# Altium schematic symbol library Module.SchLib: 68 symbols
Pins are listed as number, name and electrical type; pins without a type are passive.

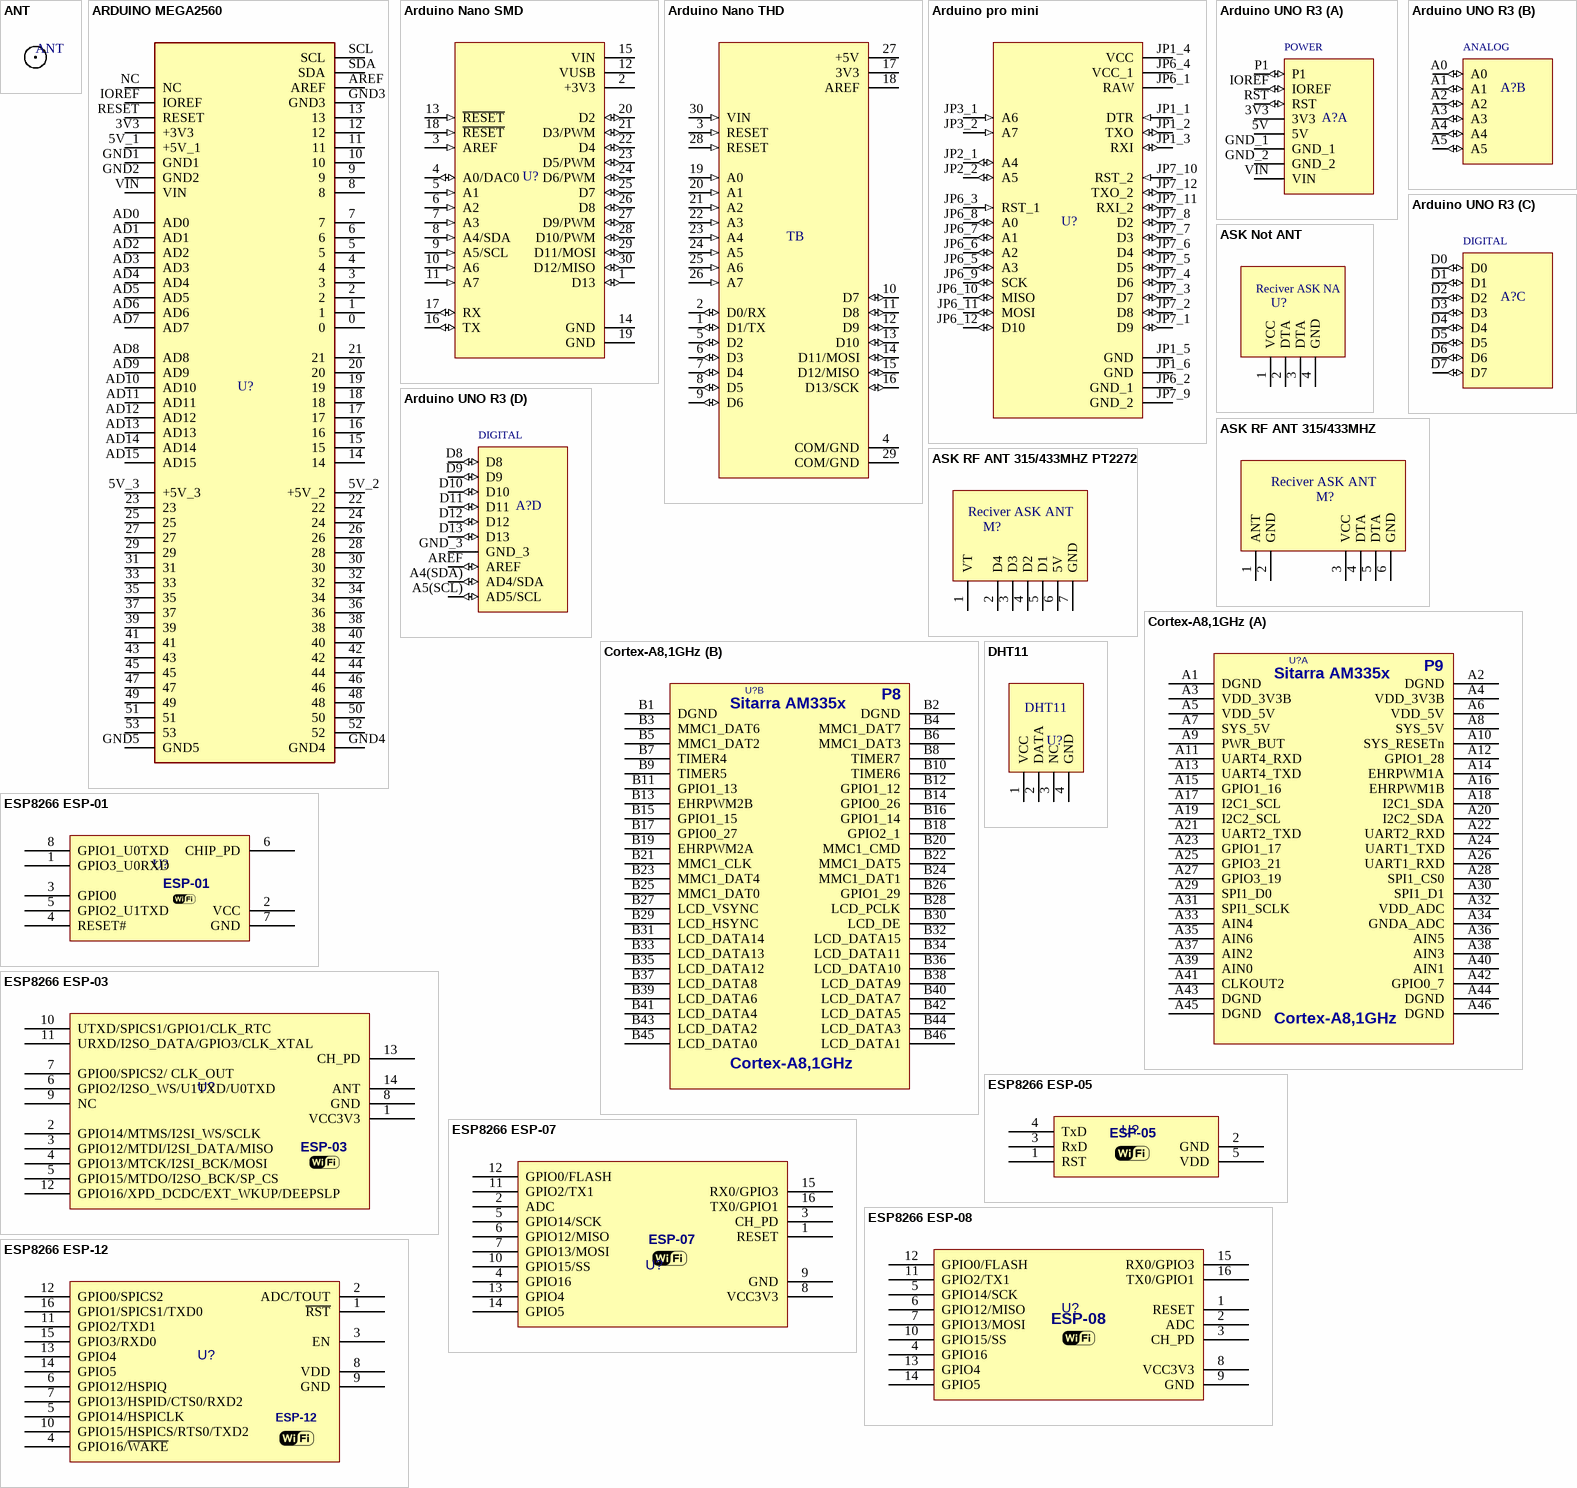
[diagram p0: symbols ANT to ESP8266 ESP-12]

## ANT
designator ANT
DatasheetVersion: 2022
footprint ANT GSM 1
footprint ANT GSM 2
footprint ANT GSM 3
footprint ANT GSM 4
footprint ANT GSM 5

## ARDUINO MEGA2560
designator U?
Dev.kit: Arduino; SPI, TWI, UART; ICSP, USB B, pin strips, supply; DatasheetVersion: 2022
footprint ARDUINO MEGA2560
pins: 0, 1, 2, 3, 3V3 +3V3, 4, 5, 5V_1 +5V_1, 5V_2 +5V_2, 5V_3 +5V_3, 6, 7, 8, 9, 10, 11, 12, 13, 14, 15, 16, 17, 18, 19, 20, 21, 22, 23, 24, 25, 26, 27, 28, 29, 30, 31, 32, 33, 34, 35, 36, 37, 38, 39, 40, 41, 42, 43, 44, 45, 46, 47, 48, 49, 50, 51, 52, 53, AD0, AD1, AD2, AD3, AD4, AD5, AD6, AD7, AD8, AD9, AD10, AD11, AD12, AD13, AD14, AD15, AREF, GND1, GND2, GND3, GND4, GND5, IOREF, NC, RESET, SCL, SDA, VIN

## Arduino Nano SMD
designator U?
ATSAMD21G18A Arduino Nano 33 IoT SAM D ARMÂ® CortexÂ®-M0 + MCU; DatasheetVersion: 2022
footprint Arduino Nano SMD
pins: 1 D13 (io), 2 +3V3 (power), 3 AREF (in), 4 A0/DAC0 (io), 5 A1 (in), 6 A2 (in), 7 A3 (in), 8 A4/SDA (in), 9 A5/SCL (in), 10 A6 (in), 11 A7 (in), 12 VUSB (power), 13 ~{RESET} (in), 14 GND (power), 15 VIN (power), 16 TX (io), 17 RX (io), 18 ~{RESET} (in), 19 GND (power), 20 D2 (io), 21 D3/PWM (io), 22 D4 (io), 23 D5/PWM (io), 24 D6/PWM (io), 25 D7 (io), 26 D8 (io), 27 D9/PWM (io), 28 D10/PWM (io), 29 D11/MOSI (io), 30 D12/MISO (io)

## Arduino Nano THD
designator TB
ATSAMD21G18A Arduino Nano 33 IoT SAM D ARMÂ® CortexÂ®-M0+ MCU 32-Bit Embedded Evaluation Board; DatasheetVersion: 2022
footprint ARDUINO NANO THD
pins: 1 D1/TX (io), 2 D0/RX (io), 3 RESET (in), 4 COM/GND (power), 5 D2 (io), 6 D3 (io), 7 D4 (io), 8 D5 (io), 9 D6 (io), 10 D7 (io), 11 D8 (io), 12 D9 (io), 13 D10 (io), 14 D11/MOSI (io), 15 D12/MISO (io), 16 D13/SCK (io), 17 3V3 (power), 18 AREF (power), 19 A0 (in), 20 A1 (in), 21 A2 (in), 22 A3 (in), 23 A4 (in), 24 A5 (in), 25 A6 (in), 26 A7 (in), 27 +5V (power), 28 RESET (in), 29 COM/GND (power), 30 VIN (in)

## Arduino pro mini
designator U?
ATmega328 Arduino Pro Mini 328 5V/16MHz AVRÂ® ATmega AVR MCU 8-Bit Embedded Evaluation Board; DatasheetVersion: 2022
footprint Arduino pro mini
pins: JP1_1 DTR (in), JP1_2 TXO (io), JP1_3 RXI (io), JP1_4 VCC (power), JP1_5 GND (power), JP1_6 GND (power), JP2_1 A4 (io), JP2_2 A5 (io), JP3_1 A6 (in), JP3_2 A7 (in), JP6_1 RAW (power), JP6_2 GND_1 (power), JP6_3 RST_1 (in), JP6_4 VCC_1 (power), JP6_5 A3 (io), JP6_6 A2 (io), JP6_7 A1 (io), JP6_8 A0 (io), JP6_9 SCK (io), JP6_10 MISO (io), JP6_11 MOSI (io), JP6_12 D10 (io), JP7_1 D9 (io), JP7_2 D8 (io), JP7_3 D7 (io), JP7_4 D6 (io), JP7_5 D5 (io), JP7_6 D4 (io), JP7_7 D3 (io), JP7_8 D2 (io), JP7_9 GND_2 (power), JP7_10 RST_2 (in), JP7_11 RXI_2 (io), JP7_12 TXO_2 (io)

## Arduino UNO R3
designator A?
ATmega328P Arduino Uno R3 AVRÂ® ATmega AVR MCU 8-Bit Embedded Evaluation Board; DatasheetVersion: 2022
footprint ARDUINO UNO R3
part A pins: 3V3 (power), 5V (power), GND_1 (power), GND_2 (power), IOREF (io), P1 (io), RST (io), VIN (power)
part B pins: A0 (io), A1 (io), A2 (io), A3 (io), A4 (io), A5 (io)
part C pins: D0 (io), D1 (io), D2 (io), D3 (io), D4 (io), D5 (io), D6 (io), D7 (io)
part D pins: A4(SDA) AD4/SDA (io), A5(SCL) AD5/SCL (io), AREF (io), D8 (io), D9 (io), D10 (io), D11 (io), D12 (io), D13 (io), GND_3 (power)
part A text: POWER
part B text: ANALOG
part C text: DIGITAL
part D text: DIGITAL

## ASK Not ANT
designator U?
Modules RF 315MHz; DatasheetVersion: 2022
footprint RF_HMR (Module RF, Receiver, HM-R)
footprint ASK Not Ant
pins: 1 VCC, 2 DTA, 3 DTA, 4 GND
text: Reciver ASK NA

## ASK RF ANT 315/433MHZ
designator M?
ASK RF ANT 315/433MHZ; DatasheetVersion: 2022
footprint RF_ETRXB (Module RF, Receiver, ET-RXB-12, ET-RXB-22)
footprint ASK ANT
pins: 1 ANT, 2 GND, 3 VCC, 4 DTA, 5 DTA, 6 GND
text: Reciver ASK ANT

## ASK RF ANT 315/433MHZ PT2272
designator M?
ASK RF ANT 315/433MHZ; DatasheetVersion: 2022
footprint ASK Not Ant PT2272
pins: 1 VT, 2 D4, 3 D3, 4 D2, 5 D1, 6 5V, 7 GND
text: Reciver ASK ANT

## Cortex-A8,1GHz
designator U?
BeagleBoneBlack Board (2x Header 2.54mm Male 2X23); DatasheetVersion: 2022
footprint BBB (BeagleBoneBlack Board)
part A pins: A1 DGND, A2 DGND, A3 VDD_3V3B, A4 VDD_3V3B, A5 VDD_5V, A6 VDD_5V, A7 SYS_5V, A8 SYS_5V, A9 PWR_BUT, A10 SYS_RESETn, A11 UART4_RXD, A12 GPIO1_28, A13 UART4_TXD, A14 EHRPWM1A, A15 GPIO1_16, A16 EHRPWM1B, A17 I2C1_SCL, A18 I2C1_SDA, A19 I2C2_SCL, A20 I2C2_SDA, A21 UART2_TXD, A22 UART2_RXD, A23 GPIO1_17, A24 UART1_TXD, A25 GPIO3_21, A26 UART1_RXD, A27 GPIO3_19, A28 SPI1_CS0, A29 SPI1_D0, A30 SPI1_D1, A31 SPI1_SCLK, A32 VDD_ADC, A33 AIN4, A34 GNDA_ADC, A35 AIN6, A36 AIN5, A37 AIN2, A38 AIN3, A39 AIN0, A40 AIN1, A41 CLKOUT2, A42 GPIO0_7, A43 DGND, A44 DGND, A45 DGND, A46 DGND
part B pins: B1 DGND, B2 DGND, B3 MMC1_DAT6, B4 MMC1_DAT7, B5 MMC1_DAT2, B6 MMC1_DAT3, B7 TIMER4, B8 TIMER7, B9 TIMER5, B10 TIMER6, B11 GPIO1_13, B12 GPIO1_12, B13 EHRPWM2B, B14 GPIO0_26, B15 GPIO1_15, B16 GPIO1_14, B17 GPIO0_27, B18 GPIO2_1, B19 EHRPWM2A, B20 MMC1_CMD, B21 MMC1_CLK, B22 MMC1_DAT5, B23 MMC1_DAT4, B24 MMC1_DAT1, B25 MMC1_DAT0, B26 GPIO1_29, B27 LCD_VSYNC, B28 LCD_PCLK, B29 LCD_HSYNC, B30 LCD_DE, B31 LCD_DATA14, B32 LCD_DATA15, B33 LCD_DATA13, B34 LCD_DATA11, B35 LCD_DATA12, B36 LCD_DATA10, B37 LCD_DATA8, B38 LCD_DATA9, B39 LCD_DATA6, B40 LCD_DATA7, B41 LCD_DATA4, B42 LCD_DATA5, B43 LCD_DATA2, B44 LCD_DATA3, B45 LCD_DATA0, B46 LCD_DATA1
part A text: P9; Sitarra AM335x
part B text: P8; Sitarra AM335x

## DHT11
designator U?
DatasheetVersion: 2022
footprint DHT11
pins: 1 VCC, 2 DATA, 3 NC, 4 GND

## ESP8266 ESP-01
designator U?
ESP8266 ESP-01 WiFi Module; DatasheetVersion: 2022
footprint ESP8266_ESP01 (ESP8266 ESP-01 Wi07C)
pins: 1 GPIO3_U0RXD, 2 VCC, 3 GPIO0, 4 RESET#, 5 GPIO2_U1TXD, 6 CHIP_PD, 7 GND, 8 GPIO1_U0TXD
text: ESP-01

## ESP8266 ESP-03
designator U?
ESP8266 ESP-03 WiFi Module; DatasheetVersion: 2022
footprint ESP8266_ESP03 (ESP8266 ESP-03)
pins: 1 VCC3V3, 2 GPIO14/MTMS/I2SI_WS/SCLK, 3 GPIO12/MTDI/I2SI_DATA/MISO, 4 GPIO13/MTCK/I2SI_BCK/MOSI, 5 GPIO15/MTDO/I2SO_BCK/SP_CS, 6 GPIO2/I2SO_WS/U1TXD/U0TXD, 7 GPIO0/SPICS2/ CLK_OUT, 8 GND, 9 NC, 10 UTXD/SPICS1/GPIO1/CLK_RTC, 11 URXD/I2SO_DATA/GPIO3/CLK_XTAL, 12 GPIO16/XPD_DCDC/EXT_WKUP/DEEPSLP, 13 CH_PD, 14 ANT
text: ESP-03

## ESP8266 ESP-05
designator U?
ESP8266 ESP-05; DatasheetVersion: 2022
footprint ESP8266_ESP05 (ESP8266 ESP-05)
pins: 1 RST, 2 GND, 3 RxD, 4 TxD, 5 VDD
text: ESP-05

## ESP8266 ESP-07
designator U?
ESP8266 ESP-07 WiFi Module; DatasheetVersion: 2022
footprint ESP8266_ESP07 (ESP8266 ESP-07)
pins: 1 RESET, 2 ADC, 3 CH_PD, 4 GPIO16, 5 GPIO14/SCK, 6 GPIO12/MISO, 7 GPIO13/MOSI, 8 VCC3V3, 9 GND, 10 GPIO15/SS, 11 GPIO2/TX1, 12 GPIO0/FLASH, 13 GPIO4, 14 GPIO5, 15 RX0/GPIO3, 16 TX0/GPIO1
text: ESP-07

## ESP8266 ESP-08
designator U?
ESP8266 ESP-07 WiFi Module; DatasheetVersion: 2022
footprint ESP8266_ESP07 (ESP8266 ESP-07)
pins: 1 RESET, 2 ADC, 3 CH_PD, 4 GPIO16, 5 GPIO14/SCK, 6 GPIO12/MISO, 7 GPIO13/MOSI, 8 VCC3V3, 9 GND, 10 GPIO15/SS, 11 GPIO2/TX1, 12 GPIO0/FLASH, 13 GPIO4, 14 GPIO5, 15 RX0/GPIO3, 16 TX0/GPIO1
text: ESP-08

## ESP8266 ESP-12
designator U?
ESP8266 ESP-12 Wi-Fi Module; DatasheetVersion: 2022
footprint ESP8266_ESP12 (ESP8266 ESP-12 Wi-Fi Module)
pins: 1 ~{RST} "Reset", 2 ADC/TOUT "ADC Input Or TOUT Output", 3 EN "Chip enable", 4 GPIO16/~{WAKE} "GPIO16 or Deep-Sleep Wakeup", 5 GPIO14/HSPICLK "GPIO14 or SPI CLK", 6 GPIO12/HSPIQ "GPIO12 or SPIQ", 7 GPIO13/HSPID/CTS0/RXD2 "GPIO13 or SPID", 8 VDD "Power supply", 9 GND "Power ground", 10 GPIO15/HSPICS/RTS0/TXD2 "GPIO15 or SPICS", 11 GPIO2/TXD1 "GPIO2 or TX", 12 GPIO0/SPICS2 "GPIO0 or SPICS2", 13 GPIO4 "GPIO5", 14 GPIO5 "GPIO4", 15 GPIO3/RXD0 "GPIO3 or UART RXD", 16 GPIO1/SPICS1/TXD0 "GPIO1 or UART TXD"
text: ESP-12

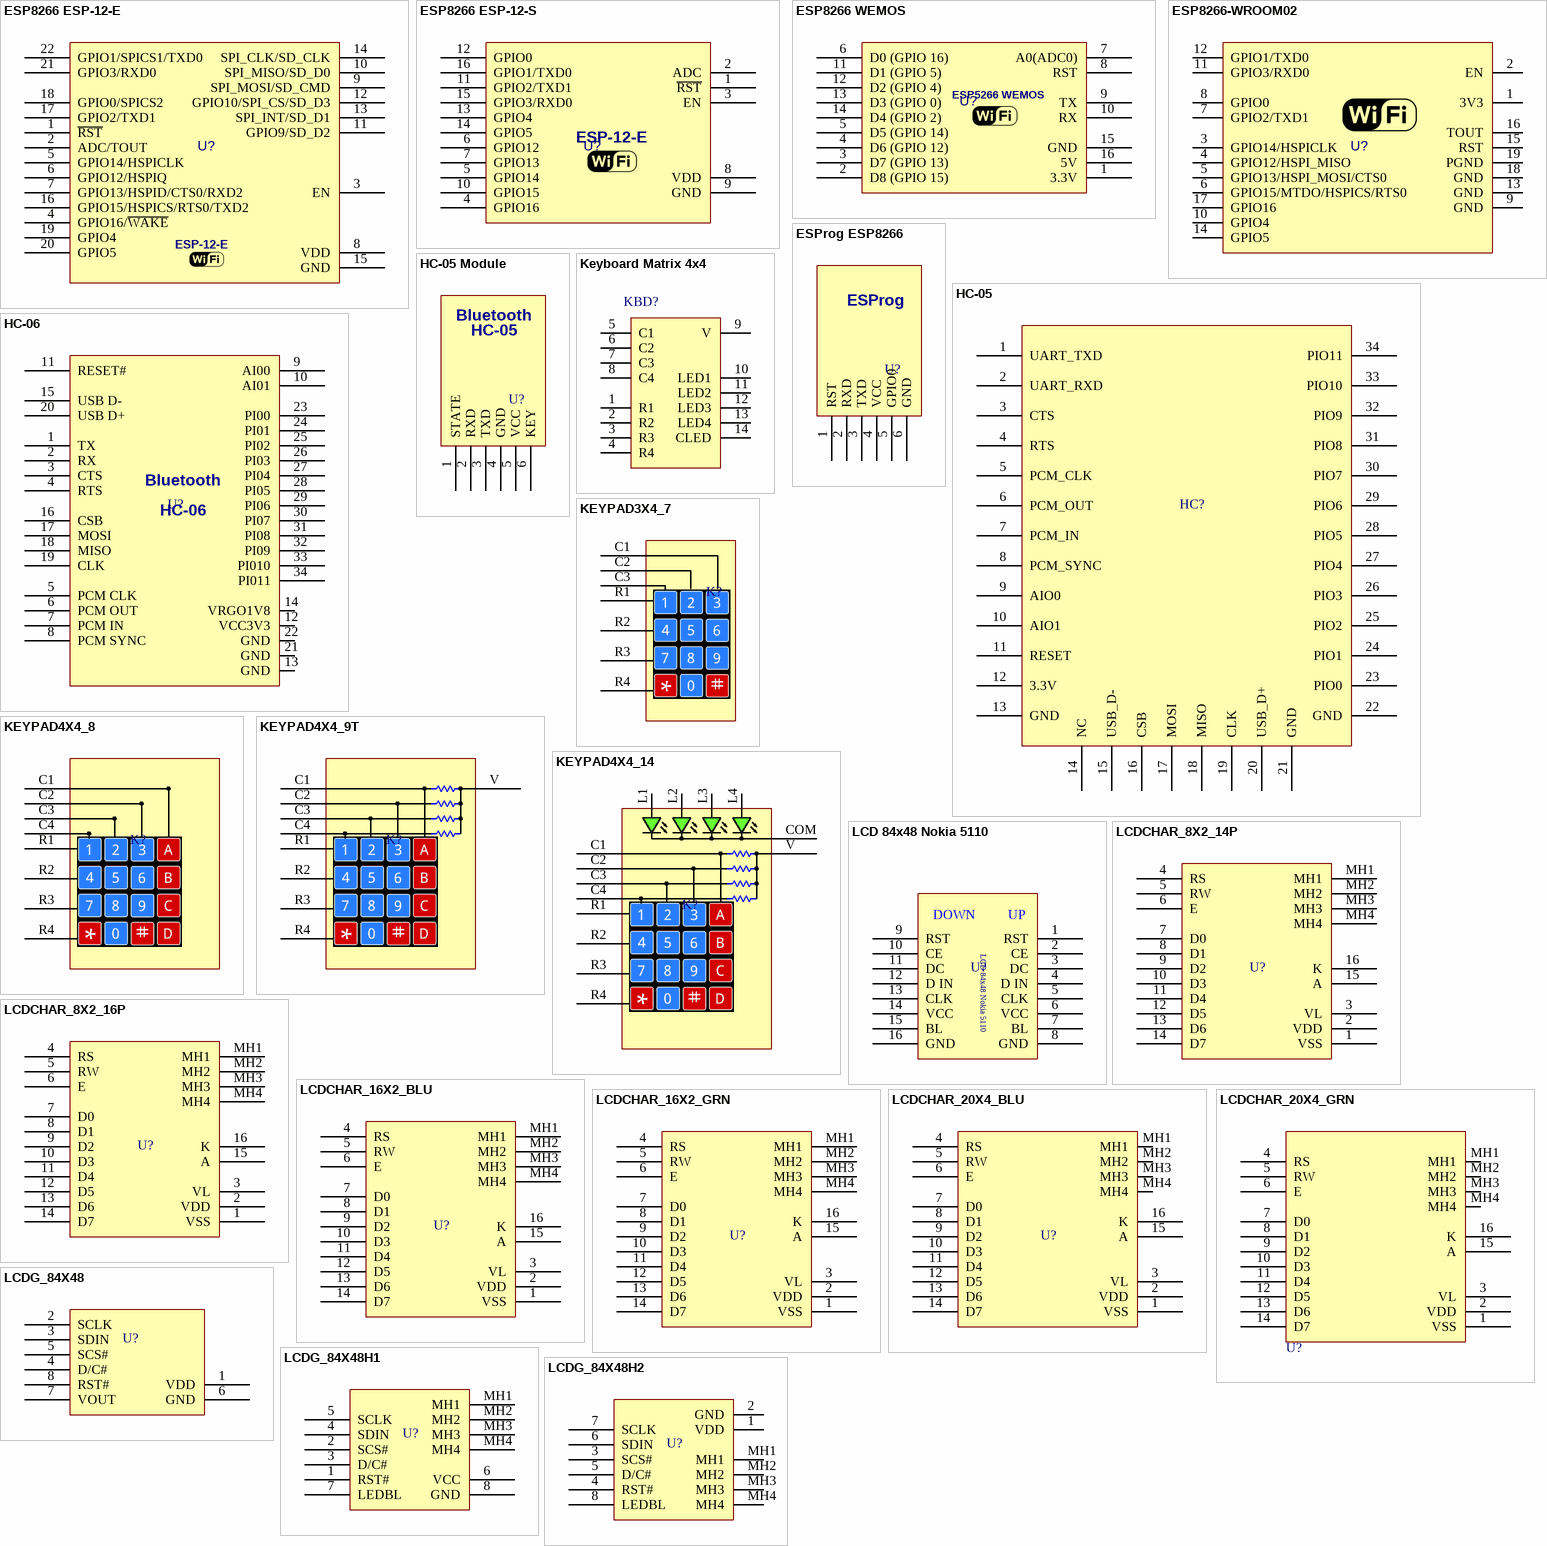
[diagram p1: symbols ESP8266 ESP-12-E to LCDG_84X48H2]

## ESP8266 ESP-12-E
designator U?
ESP8266 ESP-12 Wi-Fi Module; DatasheetVersion: 2022
footprint ESP8266_ESP12E_THD (ESP8266 ESP-12-E YHD)
footprint ESP8266_ESP12E (ESP-12 Wi-Fi Module)
footprint ESP8266_ESP12E 2 (ESP-12 Wi-Fi Module)
footprint ESP8266_ESP12E 3 (ESP-12 Wi-Fi Module)
footprint ESP8266_ESP12E 4 (ESP-12 Wi-Fi Module)
pins: 1 ~{RST} "Reset", 2 ADC/TOUT "ADC Input Or TOUT Output", 3 EN "Chip enable", 4 GPIO16/~{WAKE} "GPIO16 or Deep-Sleep Wakeup", 5 GPIO14/HSPICLK "GPIO14 or SPI CLK", 6 GPIO12/HSPIQ "GPIO12 or SPIQ", 7 GPIO13/HSPID/CTS0/RXD2 "GPIO13 or SPID", 8 VDD "Power supply", 9 SPI_MOSI/SD_CMD "GPIO14 or SPI CLK", 10 SPI_MISO/SD_D0 "GPIO12 or SPIQ", 11 GPIO9/SD_D2 "GPIO13 or SPID", 12 GPIO10/SPI_CS/SD_D3 "GPIO15 or SPICS", 13 SPI_INT/SD_D1 "GPIO2 or TX", 14 SPI_CLK/SD_CLK "GPIO0 or SPICS2", 15 GND "Power ground", 16 GPIO15/HSPICS/RTS0/TXD2 "GPIO15 or SPICS", 17 GPIO2/TXD1 "GPIO2 or TX", 18 GPIO0/SPICS2 "GPIO0 or SPICS2", 19 GPIO4 "GPIO5", 20 GPIO5 "GPIO4", 21 GPIO3/RXD0 "GPIO3 or UART RXD", 22 GPIO1/SPICS1/TXD0 "GPIO1 or UART TXD"
text: ESP-12-E

## ESP8266 ESP-12-S
designator U?
ESP8266 ESP-12 Wi-Fi Module; DatasheetVersion: 2022
footprint ESP8266_ESP12S (ESP-12 Wi-Fi Module)
pins: 1 ~{RST} "Reset", 2 ADC "ADC Input Or TOUT Output", 3 EN "Chip enable", 4 GPIO16 "GPIO16 or Deep-Sleep Wakeup", 5 GPIO14 "GPIO14 or SPI CLK", 6 GPIO12 "GPIO12 or SPIQ", 7 GPIO13 "GPIO13 or SPID", 8 VDD "Power supply", 9 GND "Power ground", 10 GPIO15 "GPIO15 or SPICS", 11 GPIO2/TXD1 "GPIO2 or TX", 12 GPIO0 "GPIO0 or SPICS2", 13 GPIO4 "GPIO5", 14 GPIO5 "GPIO4", 15 GPIO3/RXD0 "GPIO3 or UART RXD", 16 GPIO1/TXD0 "GPIO1 or UART TXD"
text: ESP-12-E

## ESP8266 WEMOS
designator U?
DatasheetVersion: 2022
footprint ESP8266 WEMOS
pins: 1 3.3V, 2 D8 (GPIO 15), 3 D7 (GPIO 13), 4 D6 (GPIO 12), 5 D5 (GPIO 14), 6 D0 (GPIO 16), 7 A0(ADC0), 8 RST, 9 TX, 10 RX, 11 D1 (GPIO 5), 12 D2 (GPIO 4), 13 D3 (GPIO 0), 14 D4 (GPIO 2), 15 GND, 16 5V
text: ESP5266 WEMOS

## ESP8266-WROOM02
designator U?
ESP8266 ESP-12 Wi-Fi Module; DatasheetVersion: 2022
footprint ESP8266_ESPW2 (ESP8266 ESP-WROOM-02 Wi-Fi Module)
pins: 1 3V3, 2 EN, 3 GPIO14/HSPICLK, 4 GPIO12/HSPI_MISO, 5 GPIO13/HSPI_MOSI/CTS0, 6 GPIO15/MTDO/HSPICS/RTS0, 7 GPIO2/TXD1, 8 GPIO0, 9 GND, 10 GPIO4, 11 GPIO3/RXD0, 12 GPIO1/TXD0, 13 GND, 14 GPIO5, 15 RST, 16 TOUT, 17 GPIO16, 18 GND, 19 PGND

## ESProg ESP8266
designator U?
ESP8266 & ESP32 Programmer with Autoreset; DatasheetVersion: 2022
footprint ESProg ESP8266 Right (ESProg ESP8266)
footprint ESProg ESP8266
pins: 1 RST, 2 RXD, 3 TXD, 4 VCC, 5 GPIO0, 6 GND
text: ESProg

## HC-05
designator HC?
HC serial Bluetooth products consist of Bluetooth serial interface module and Bluetooth adapter, such; DatasheetVersion: 2022
footprint HC-05
pins: 1 UART_TXD, 2 UART_RXD, 3 CTS, 4 RTS, 5 PCM_CLK, 6 PCM_OUT, 7 PCM_IN, 8 PCM_SYNC, 9 AIO0, 10 AIO1, 11 RESET, 12 3.3V, 13 GND, 14 NC, 15 USB_D-, 16 CSB, 17 MOSI, 18 MISO, 19 CLK, 20 USB_D+, 21 GND, 22 GND, 23 PIO0, 24 PIO1, 25 PIO2, 26 PIO3, 27 PIO4, 28 PIO5, 29 PIO6, 30 PIO7, 31 PIO8, 32 PIO9, 33 PIO10, 34 PIO11

## HC-05 Module
designator U?
Bluetooth Module, 2Mbps, 8Mb flash, 3.1~4.2V; DatasheetVersion: 2022
footprint HC05 HDR (Bluetooth HC-05)
pins: 1 STATE, 2 RXD, 3 TXD, 4 GND, 5 VCC, 6 KEY
text: Bluetooth; HC-05

## HC-06
designator U?
Bluetooth Module, 2Mbps, 8Mb flash, 3.1~4.2V; DatasheetVersion: 2022
footprint HC06 (Bluetooth HC-06)
pins: 1 TX, 2 RX, 3 CTS, 4 RTS, 5 PCM CLK, 6 PCM OUT, 7 PCM IN, 8 PCM SYNC, 9 AI00, 10 AI01, 11 RESET#, 12 VCC3V3, 13 GND, 14 VRGO1V8, 15 USB D-, 16 CSB, 17 MOSI, 18 MISO, 19 CLK, 20 USB D+, 21 GND, 22 GND, 23 PI00, 24 PI01, 25 PI02, 26 PI03, 27 PI04, 28 PI05, 29 PI06, 30 PI07, 31 PI08, 32 PI09, 33 PI010, 34 PI011
text: Bluetooth

## Keyboard Matrix 4x4
designator KBD?
DatasheetVersion: 2022
footprint Keyboard (Matrix Keyboard 4x4)
pins: 1 R1, 2 R2, 3 R3, 4 R4, 5 C1, 6 C2, 7 C3, 8 C4, 9 V, 10 LED1, 11 LED2, 12 LED3, 13 LED4, 14 CLED

## KEYPAD3X4_7
designator K?
Keypad Module; DatasheetVersion: 2022
footprint KEYPAD3X4_7 (Matrix Keyboard 4x4)
pins: C1, C2, C3, R1, R2, R3, R4

## KEYPAD4X4_8
designator K?
Keypad Module; DatasheetVersion: 2022
footprint KEYPAD4X4_10 (Matrix Keyboard 4x4)
pins: C1, C2, C3, C4, R1, R2, R3, R4

## KEYPAD4X4_9T
designator K?
Keypad Module; DatasheetVersion: 2022
footprint KEYPAD4X4_9t (Matrix Keyboard 4x4)
pins: C1, C2, C3, C4, R1, R2, R3, R4, V

## KEYPAD4X4_14
designator K?
Keypad Module + LED; DatasheetVersion: 2022
footprint KEYPAD4X4_14 (Matrix Keyboard 4x4)
pins: C1, C2, C3, C4, COM, L1, L2, L3, L4, R1, R2, R3, R4, V

## LCD 84x48 Nokia 5110
designator U?
DatasheetVersion: 2022
footprint LCD 84x48 Nokia 5110
pins: 1 RST, 2 CE, 3 DC, 4 D IN, 5 CLK, 6 VCC, 7 BL, 8 GND, 9 RST, 10 CE, 11 DC, 12 D IN, 13 CLK, 14 VCC, 15 BL, 16 GND
text: DOWN; UP

## LCDCHAR_8X2_14P
designator U?
LCD Character Disp, 8X2, header2x7; DatasheetVersion: 2022
footprint LCDCHAR_8X2_14P (LCD Characters Display, 2linesX8char, header2x7 + 2)
pins: 1 VSS, 2 VDD, 3 VL, 4 RS, 5 RW, 6 E, 7 D0, 8 D1, 9 D2, 10 D3, 11 D4, 12 D5, 13 D6, 14 D7, 15 A, 16 K, MH1, MH2, MH3, MH4

## LCDCHAR_8X2_16P
designator U?
LCD Character Disp, 8X2; DatasheetVersion: 2022
footprint LCDCHAR_8X2_16P (LCD Characters Display, 2linesX8char, header2x8)
pins: 1 VSS, 2 VDD, 3 VL, 4 RS, 5 RW, 6 E, 7 D0, 8 D1, 9 D2, 10 D3, 11 D4, 12 D5, 13 D6, 14 D7, 15 A, 16 K, MH1, MH2, MH3, MH4

## LCDCHAR_16X2_BLU
designator U?
LCD Character Disp, 16X2; DatasheetVersion: 2022
footprint LCDCHAR_16X2_BLU (LCD Characters Display, 2linesX16char, Blue, header1x16)
pins: 1 VSS, 2 VDD, 3 VL, 4 RS, 5 RW, 6 E, 7 D0, 8 D1, 9 D2, 10 D3, 11 D4, 12 D5, 13 D6, 14 D7, 15 A, 16 K, MH1, MH2, MH3, MH4

## LCDCHAR_16X2_GRN
designator U?
LCD Character Disp, 16X2; DatasheetVersion: 2022
footprint LCDCHAR_16X2_GRN (LCD Characters Display, 2linesX16char, Green, header1x16)
pins: 1 VSS, 2 VDD, 3 VL, 4 RS, 5 RW, 6 E, 7 D0, 8 D1, 9 D2, 10 D3, 11 D4, 12 D5, 13 D6, 14 D7, 15 A, 16 K, MH1, MH2, MH3, MH4

## LCDCHAR_20X4_BLU
designator U?
LCD Character Disp, 20X4; DatasheetVersion: 2022
footprint LCDCHAR_20X4_BLU (LCD Characters Display, 4linesX20char, Blue, header1x16)
pins: 1 VSS, 2 VDD, 3 VL, 4 RS, 5 RW, 6 E, 7 D0, 8 D1, 9 D2, 10 D3, 11 D4, 12 D5, 13 D6, 14 D7, 15 A, 16 K, MH1, MH2, MH3, MH4

## LCDCHAR_20X4_GRN
designator U?
LCD Character Disp, 20X4; DatasheetVersion: 2022
footprint LCDCHAR_20X4_GRN (LCD Characters Display, 4linesX20char, Green, header1x16)
pins: 1 VSS, 2 VDD, 3 VL, 4 RS, 5 RW, 6 E, 7 D0, 8 D1, 9 D2, 10 D3, 11 D4, 12 D5, 13 D6, 14 D7, 15 A, 16 K, MH1, MH2, MH3, MH4

## LCDG_84X48
designator U?
LCD, monochrome, 1.5", 84X48; DatasheetVersion: 2022
footprint LCDG_1P5_84X48 (LCD, NOKIA 3310, 5110, PCD8544)
pins: 1 VDD, 2 SCLK, 3 SDIN, 4 D/C#, 5 SCS#, 6 GND, 7 VOUT, 8 RST#

## LCDG_84X48H1
designator U?
LCD, monochrome, 1.5", 84X48, header; DatasheetVersion: 2022
footprint LCDG_1P5_84X48H1 (LCD, NOKIA 3310, 5110, PCD8544)
pins: 1 RST#, 2 SCS#, 3 D/C#, 4 SDIN, 5 SCLK, 6 VCC, 7 LEDBL, 8 GND, MH1, MH2, MH3, MH4

## LCDG_84X48H2
designator U?
LCD, monochrome, 1.5", 84X48, header; DatasheetVersion: 2022
footprint LCDG_1P5_84X48H2 (LCD, NOKIA 3310, 5110, PCD8544)
pins: 1 VDD, 2 GND, 3 SCS#, 4 RST#, 5 D/C#, 6 SDIN, 7 SCLK, 8 LEDBL, MH1, MH2, MH3, MH4

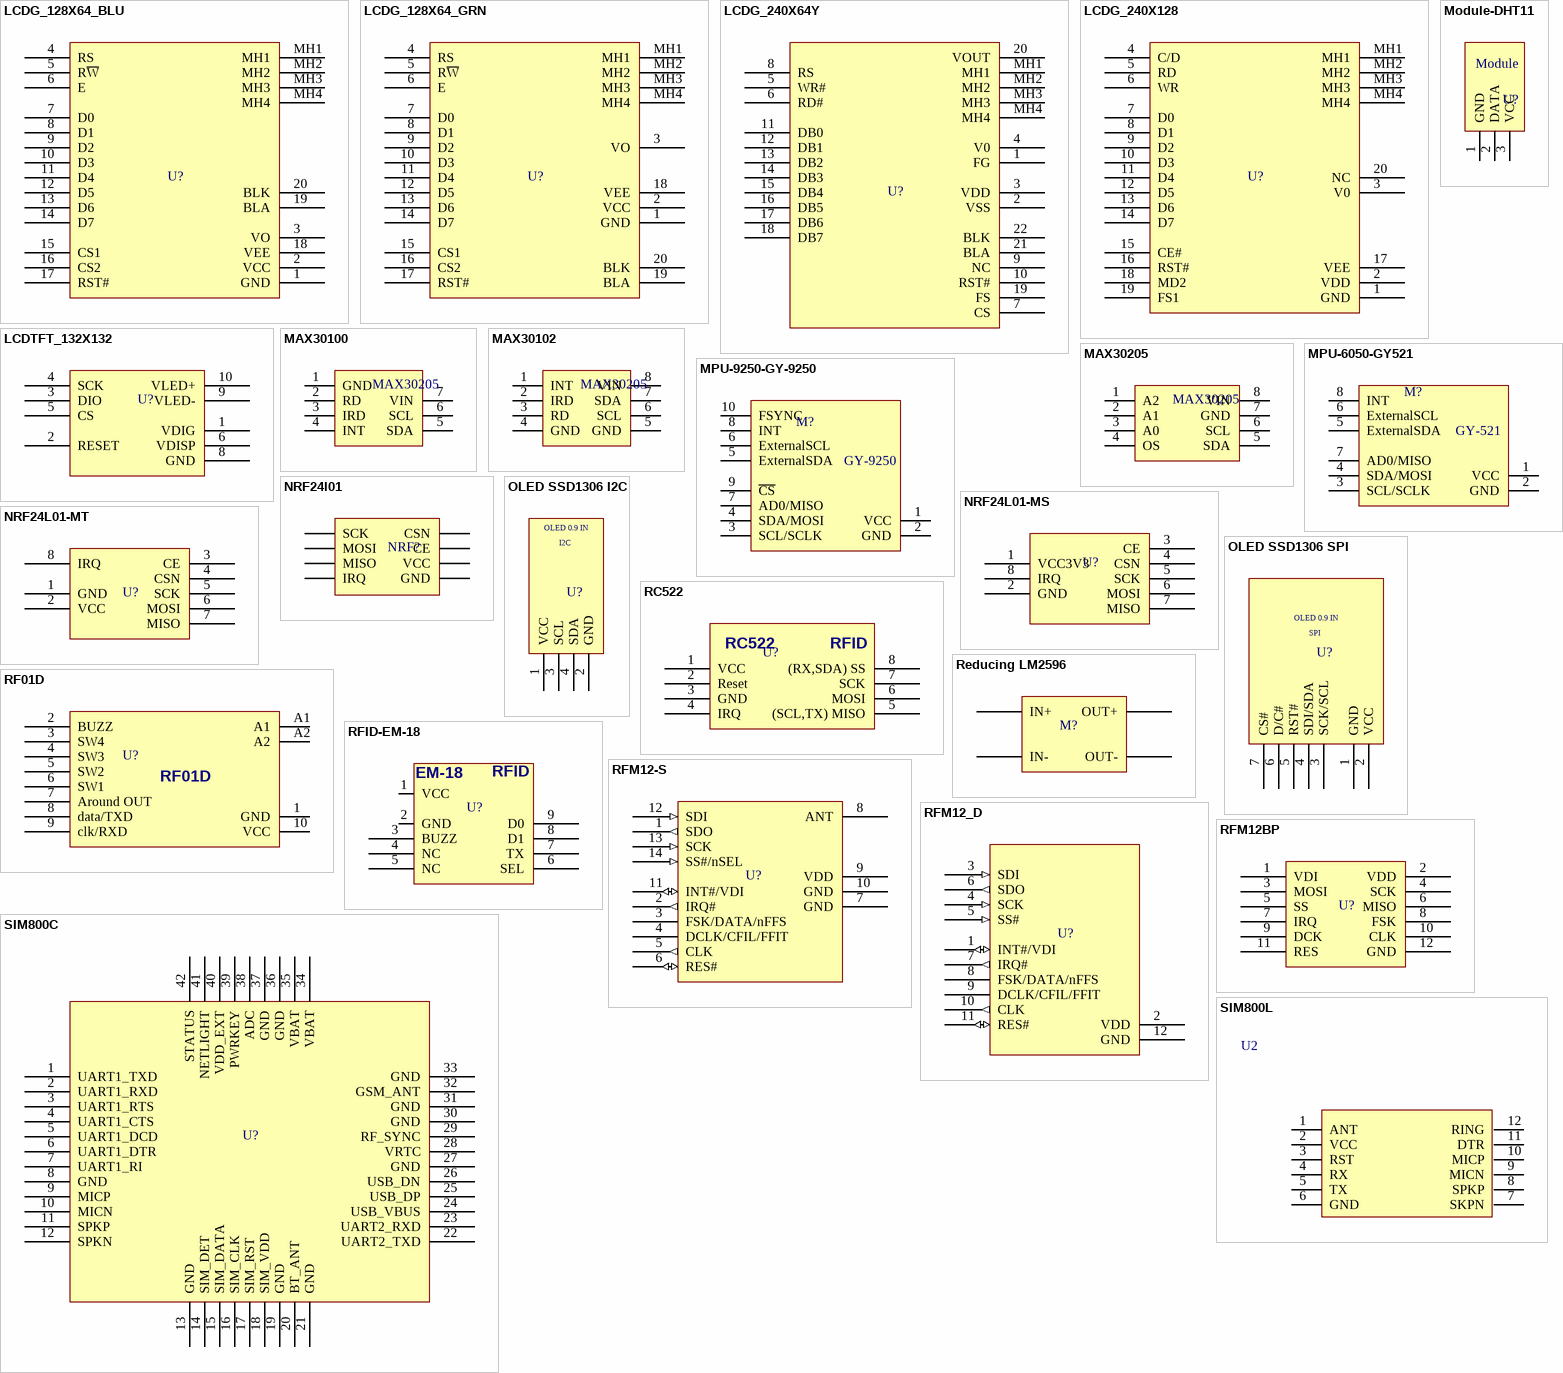
[diagram p2: symbols LCDG_128X64_BLU to SIM800L]

## LCDG_128X64_BLU
designator U?
LCD Graphic Disp, 128X64, with KS108 Controller; DatasheetVersion: 2022
footprint LCDG_128X64_BLU (LCD Graphic Disp, 128X64, TS12864A-2)
pins: 1 GND, 2 VCC, 3 VO, 4 RS, 5 R~{W}, 6 E, 7 D0, 8 D1, 9 D2, 10 D3, 11 D4, 12 D5, 13 D6, 14 D7, 15 CS1, 16 CS2, 17 RST#, 18 VEE, 19 BLA, 20 BLK, MH1, MH2, MH3, MH4

## LCDG_128X64_GRN
designator U?
LCD Graphic Disp, 128X64, with KS108 Controller; DatasheetVersion: 2022
footprint LCDG_128X64_GRN (LCD Graphic Disp, 128X64, TS12864A-2)
pins: 1 GND, 2 VCC, 3 VO, 4 RS, 5 R~{W}, 6 E, 7 D0, 8 D1, 9 D2, 10 D3, 11 D4, 12 D5, 13 D6, 14 D7, 15 CS1, 16 CS2, 17 RST#, 18 VEE, 19 BLA, 20 BLK, MH1, MH2, MH3, MH4

## LCDG_240X64Y
designator U?
LCD Graphic Disp, 240X64, 180X65mm, 5.2"; DatasheetVersion: 2022
footprint LCDG_240X64Y (LCD Graphic Disp, 240X64, YB24064-B)
pins: 1 FG, 2 VSS, 3 VDD, 4 V0, 5 WR#, 6 RD#, 7 CS, 8 RS, 9 NC, 10 RST#, 11 DB0, 12 DB1, 13 DB2, 14 DB3, 15 DB4, 16 DB5, 17 DB6, 18 DB7, 19 FS, 20 VOUT, 21 BLA, 22 BLK, MH1, MH2, MH3, MH4

## LCDG_240X128
designator U?
LCD Graphic Disp, 240X128, with T6963 Controller; DatasheetVersion: 2022
footprint LCDG_240X128 (LCD Graphic Disp, 240X128, TS240128 With T6963 Controller, 144x104x12mm)
pins: 1 GND, 2 VDD, 3 V0, 4 C/D, 5 RD, 6 WR, 7 D0, 8 D1, 9 D2, 10 D3, 11 D4, 12 D5, 13 D6, 14 D7, 15 CE#, 16 RST#, 17 VEE, 18 MD2, 19 FS1, 20 NC, MH1, MH2, MH3, MH4

## LCDTFT_132X132
designator U?
LCD TFT 12Bit Color, 1.5", 132X132; DatasheetVersion: 2022
footprint LCDTFT_1P5_132X132 (LCD, NOKIA 6610, 6220, 6100, 2600, 2610)
pins: 1 VDIG, 2 RESET, 3 DIO, 4 SCK, 5 CS, 6 VDISP, 8 GND, 9 VLED-, 10 VLED+

## MAX30100
designator MAX30205
DatasheetVersion: 2022
footprint max30100
pins: 1 GND, 2 RD, 3 IRD, 4 INT, 5 SDA, 6 SCL, 7 VIN

## MAX30102
designator MAX30205
DatasheetVersion: 2022
footprint max30102
pins: 1 INT, 2 IRD, 3 RD, 4 GND, 5 GND, 6 SCL, 7 SDA, 8 VIN

## MAX30205
designator MAX30205
DatasheetVersion: 2022
footprint max30205
pins: 1 A2, 2 A1, 3 A0, 4 OS, 5 SDA, 6 SCL, 7 GND, 8 VIN

## Module-DHT11
designator U?
DatasheetVersion: 2022
footprint Module-DHT11-Right
footprint Module-DHT11
pins: 1 GND, 2 DATA, 3 VCC
text: Module

## MPU-6050-GY521
designator M?
MPU-6050 GY521; DatasheetVersion: 2022
footprint GY521 (GY-521, MPU-6050 Module)
footprint GY521H (GY-521, MPU-6050 Module)
pins: 1 VCC, 2 GND, 3 SCL/SCLK, 4 SDA/MOSI, 5 ExternalSDA, 6 ExternalSCL, 7 AD0/MISO, 8 INT
text: GY-521

## MPU-9250-GY-9250
designator M?
MPU-9250 GY-9250; DatasheetVersion: 2022
footprint GY9250H (GY-9250, MPU-9250 Module)
footprint GY9250 (GY-9250, MPU-9250 Module)
pins: 1 VCC, 2 GND, 3 SCL/SCLK, 4 SDA/MOSI, 5 ExternalSDA, 6 ExternalSCL, 7 AD0/MISO, 8 INT, 9 ~{CS}, 10 FSYNC

## NRF24l01
designator NRF?
Single chip 2.4 GHz Transceiver; DatasheetVersion: 2022
footprint NRF24L01 dip
pins: CE, CSN, GND (power), IRQ, MISO, MOSI, SCK, VCC (power)

## NRF24L01-MS
designator U?
2.4GHz Transceiver MODULE, SMD; DatasheetVersion: 2022
footprint NRF24L01_S (MODULE, WIRELESS, NRF24L01+ smd Module)
pins: 1 VCC3V3, 2 GND (power), 3 CE, 4 CSN, 5 SCK, 6 MOSI, 7 MISO, 8 IRQ

## NRF24L01-MT
designator U?
2.4GHz Transceiver MODULE, THD; DatasheetVersion: 2022
footprint NRF24L01_H (MODULE, WIRELESS, NRF24L01 HEADER 2X8)
pins: 1 GND (power), 2 VCC, 3 CE, 4 CSN, 5 SCK, 6 MOSI, 7 MISO, 8 IRQ

## OLED SSD1306 I2C
designator U?
OLED, SSD1306, 0.96", 128X64, BREAKOUT I2C; DatasheetVersion: 2022
footprint OLED_SSD1306_64_I2C (OLED SS1306 Breakout, 128X64, I2C)
pins: 1 VCC, 2 GND, 3 SCL, 4 SDA
text: OLED 0.9 IN; I2C

## OLED SSD1306 SPI
designator U?
OLED, SSD1306, 0.96", 128X64, BREAKOUT SPI; DatasheetVersion: 2022
footprint OLED_SSD1306_64_SPI (OLED SS1306 Breakout, 128X64, SPI)
pins: 1 GND, 2 VCC, 3 SCK/SCL, 4 SDI/SDA, 5 RST#, 6 D/C#, 7 CS#
text: OLED 0.9 IN; SPI

## RC522
designator U?
RFID MODULE RC522; DatasheetVersion: 2022
footprint RC522 (RFID RC522)
pins: 1 VCC, 2 Reset, 3 GND, 4 IRQ, 5 (SCL,TX) MISO, 6 MOSI, 7 SCK, 8 (RX,SDA) SS
text: RFID

## Reducing LM2596
designator M?
Reducing LM2596; DatasheetVersion: 2022
footprint MOUDULE 5-12V
pins: 1 IN-, 2 IN+, 3 OUT-, 4 OUT+

## RF01D
designator U?
RFID MODULE; DatasheetVersion: 2022
footprint RF01D
pins: 1 GND, 2 BUZZ, 3 SW4, 4 SW3, 5 SW2, 6 SW1, 7 Around OUT, 8 data/TXD, 9 clk/RXD, 10 VCC, A1, A2

## RFID-EM-18
designator U?
RFID MODULE; DatasheetVersion: 2022
footprint RFID_EM18 (MODULE, RFID Reader, EM-18)
pins: 1 VCC, 2 GND, 3 BUZZ, 4 NC, 5 NC, 6 SEL, 7 TX, 8 D1, 9 D0
text: RFID; EM-18

## RFM12-S
designator U?
Universal ISM Band FSK Transceiver Module, 256Kbps; DatasheetVersion: 2022
footprint RFM12B_S (MODULE, WIRELESS, RFM12B-S)
pins: 1 SDO (out), 2 IRQ# (out), 3 FSK/DATA/nFFS, 4 DCLK/CFIL/FFIT, 5 CLK (out), 6 RES# (io), 7 GND (power), 8 ANT, 9 VDD (power), 10 GND (power), 11 INT#/VDI (io), 12 SDI (in), 13 SCK (in), 14 SS#/nSEL (in)

## RFM12_D
designator U?
Universal ISM Band FSK Transceiver Module, 256Kbps; DatasheetVersion: 2022
footprint RFM12B_D (MODULE, WIRELESS, RFM12B-D)
pins: 1 INT#/VDI (io), 2 VDD (power), 3 SDI (in), 4 SCK (in), 5 SS# (in), 6 SDO (out), 7 IRQ# (out), 8 FSK/DATA/nFFS, 9 DCLK/CFIL/FFIT, 10 CLK (out), 11 RES# (io), 12 GND (power)

## RFM12BP
designator U?
Universal ISM Band FSK Transceiver Module, 256Kbps; DatasheetVersion: 2022
footprint RFM12B_D (MODULE, WIRELESS, RFM12B-D)
pins: 1 VDI (power), 2 VDD (power), 3 MOSI (power), 4 SCK (power), 5 SS (power), 6 MISO (power), 7 IRQ (power), 8 FSK (power), 9 DCK (power), 10 CLK (power), 11 RES (power), 12 GND (power)

## SIM800C
designator U?
SIM800C; ComponentLinkp-URL: https://www.smartw.ir/; DatasheetVersion: 2022
footprint SIM800C
footprint GSM_SIM800C (GSM, SIM800C, 42-L, 15.7X17.6mm)
pins: 1 UART1_TXD, 2 UART1_RXD, 3 UART1_RTS, 4 UART1_CTS, 5 UART1_DCD, 6 UART1_DTR, 7 UART1_RI, 8 GND, 9 MICP, 10 MICN, 11 SPKP, 12 SPKN, 13 GND, 14 SIM_DET, 15 SIM_DATA, 16 SIM_CLK, 17 SIM_RST, 18 SIM_VDD, 19 GND, 20 BT_ANT, 21 GND, 22 UART2_TXD, 23 UART2_RXD, 24 USB_VBUS, 25 USB_DP, 26 USB_DN, 27 GND, 28 VRTC, 29 RF_SYNC, 30 GND, 31 GND, 32 GSM_ANT, 33 GND, 34 VBAT, 35 VBAT, 36 GND, 37 GND, 38 ADC, 39 PWRKEY, 40 VDD_EXT, 41 NETLIGHT, 42 STATUS

## SIM800L
designator U2
SIM800L; DatasheetVersion: 2022
footprint SIM800L
pins: 1 ANT, 2 VCC, 3 RST, 4 RX, 5 TX, 6 GND, 7 SKPN, 8 SPKP, 9 MICN, 10 MICP, 11 DTR, 12 RING

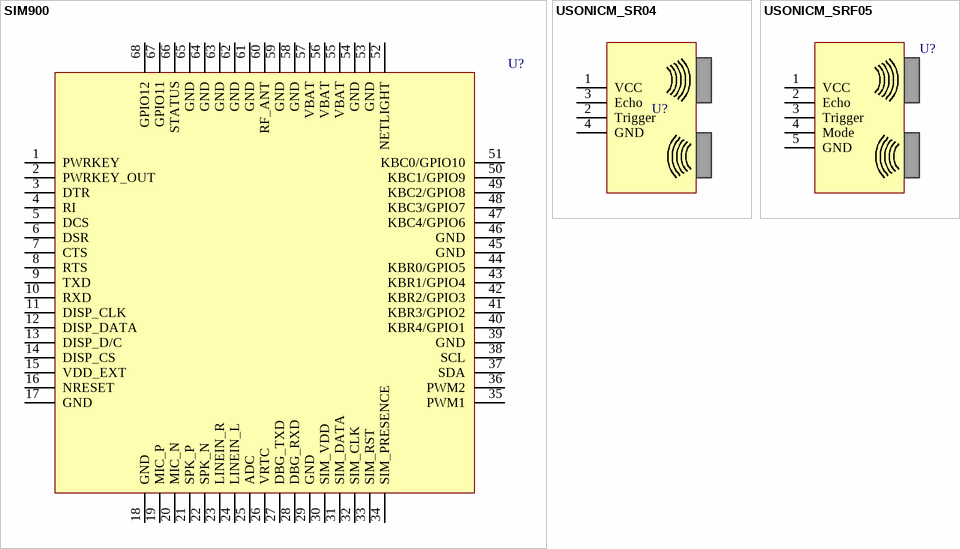
[diagram p3: symbols SIM900 to USONICM_SRF05]

## SIM900
designator U?
SIM900; ComponentLinkp-URL: https://www.smartw.ir/; DatasheetVersion: 2022
footprint SIM900
footprint GSM_SIM900 (SIM900_SIM900A)
pins: 1 PWRKEY, 2 PWRKEY_OUT, 3 DTR, 4 RI, 5 DCS, 6 DSR, 7 CTS, 8 RTS, 9 TXD, 10 RXD, 11 DISP_CLK, 12 DISP_DATA, 13 DISP_D/C, 14 DISP_CS, 15 VDD_EXT, 16 NRESET, 17 GND, 18 GND, 19 MIC_P, 20 MIC_N, 21 SPK_P, 22 SPK_N, 23 LINEIN_R, 24 LINEIN_L, 25 ADC, 26 VRTC, 27 DBG_TXD, 28 DBG_RXD, 29 GND, 30 SIM_VDD, 31 SIM_DATA, 32 SIM_CLK, 33 SIM_RST, 34 SIM_PRESENCE, 35 PWM1, 36 PWM2, 37 SDA, 38 SCL, 39 GND, 40 KBR4/GPIO1, 41 KBR3/GPIO2, 42 KBR2/GPIO3, 43 KBR1/GPIO4, 44 KBR0/GPIO5, 45 GND, 46 GND, 47 KBC4/GPIO6, 48 KBC3/GPIO7, 49 KBC2/GPIO8, 50 KBC1/GPIO9, 51 KBC0/GPIO10, 52 NETLIGHT, 53 GND, 54 GND, 55 VBAT, 56 VBAT, 57 VBAT, 58 GND, 59 GND, 60 RF_ANT, 61 GND, 62 GND, 63 GND, 64 GND, 65 GND, 66 STATUS, 67 GPIO11, 68 GPIO12

## USONICM_SR04
designator U?
SRF05 - Ultra-Sonic Ranger; DatasheetVersion: 2022
footprint USONICM_SR04 (Ultrasonic sensor Module, HC-SR04)
pins: 1 VCC, 2 Trigger, 3 Echo, 4 GND

## USONICM_SRF05
designator U?
SRF05 - Ultra-Sonic Ranger; DatasheetVersion: 2022
footprint USONICM_SRF05 (Ultrasonic sensor Module, SRF05)
pins: 1 VCC, 2 Echo, 3 Trigger, 4 Mode, 5 GND